# EAGLE library part HEADER-1X20 (library Etch_A_Sketch)
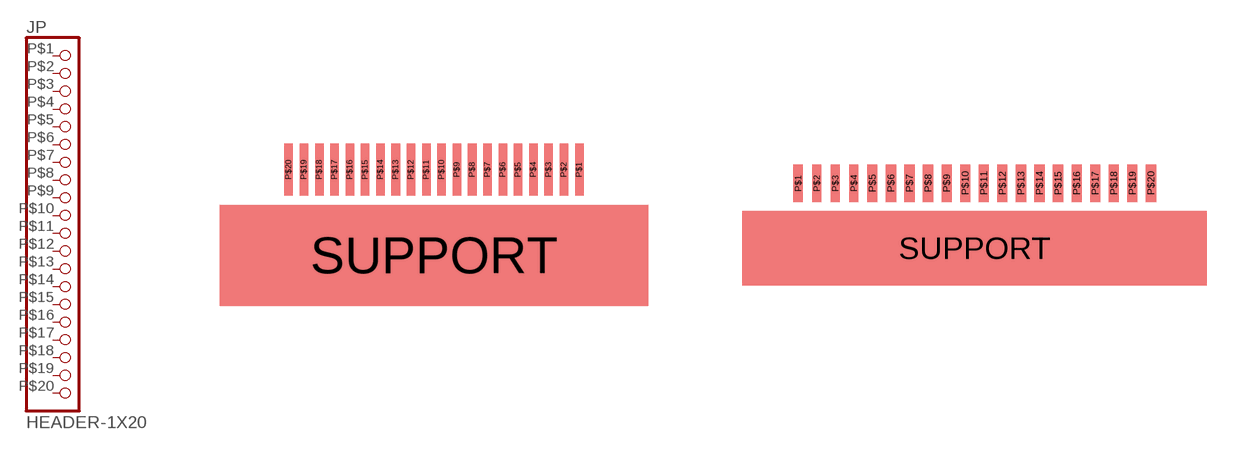
[diagram p2: symbol with the pads of FPC_GENERIC_0.5MM_20PIN; footprints FPC_GENERIC_0.5MM_20PIN, FPC_GENERIC_1.0MM_20PIN]

Designator prefix JP

## HEADER-1X20FPC_0.5MM  [FPC_GENERIC_0.5MM_20PIN]
P$1  1  pas
P$2  2  pas
P$3  3  pas
P$4  4  pas
P$5  5  pas
P$6  6  pas
P$7  7  pas
P$8  8  pas
P$9  9  pas
P$10  10  pas
P$11  11  pas
P$12  12  pas
P$13  13  pas
P$14  14  pas
P$15  15  pas
P$16  16  pas
P$17  17  pas
P$18  18  pas
P$19  19  pas
P$20  20  pas

## HEADER-1X20FPC_1.0MM  [FPC_GENERIC_1.0MM_20PIN]
Pads as for FPC_GENERIC_0.5MM_20PIN

## HEADER-1X20ROUND  [1X20_ROUND]
1  1  pas
2  2  pas
3  3  pas
4  4  pas
5  5  pas
6  6  pas
7  7  pas
8  8  pas
9  9  pas
10  10  pas
11  11  pas
12  12  pas
13  13  pas
14  14  pas
15  15  pas
16  16  pas
17  17  pas
18  18  pas
19  19  pas
20  20  pas

## Footprint FPC_GENERIC_0.5MM_20PIN (pad centres in mm)
smd 0.28 x 1.7: P$1 4.75,3.81; P$2 4.25,3.81; P$3 3.75,3.81; P$4 3.25,3.81; P$5 2.75,3.81; P$6 2.25,3.81; P$7 1.75,3.81; P$8 1.25,3.81; P$9 0.75,3.81; P$10 0.25,3.81; P$11 -0.25,3.81; P$12 -0.75,3.81; P$13 -1.25,3.81; P$14 -1.75,3.81; P$15 -2.25,3.81; P$16 -2.75,3.81; P$17 -3.25,3.81; P$18 -3.75,3.81; P$19 -4.25,3.81; P$20 -4.75,3.81
smd 14 x 3.3: SUPPORT 0,1.01

## Footprint FPC_GENERIC_1.0MM_20PIN (pad centres in mm)
Generic FPC Breakout - 20 Pin - 1.0mm Pitch
smd 0.5 x 2: P$1 -9.5,0; P$2 -8.5,0; P$3 -7.5,0; P$4 -6.5,0
smd 0.55 x 2: P$5 -5.5,0; P$6 -4.5,0; P$7 -3.5,0; P$8 -2.5,0; P$9 -1.5,0; P$10 -0.5,0; P$11 0.5,0; P$12 1.5,0; P$13 2.5,0; P$14 3.5,0; P$15 4.5,0; P$16 5.5,0; P$17 6.5,0; P$18 7.5,0; P$19 8.5,0; P$20 9.5,0
smd 25 x 4: SUPPORT 0,-3.5

## Footprint 1X20_ROUND (pad centres in mm)
drill 1 pad 1.676 square: 1 -24.13,0
drill 1 pad 1.676: 2 -21.59,0; 3 -19.05,0; 4 -16.51,0; 5 -13.97,0; 6 -11.43,0; 7 -8.89,0; 8 -6.35,0; 9 -3.81,0; 10 -1.27,0; 11 1.27,0; 12 3.81,0; 13 6.35,0; 14 8.89,0; 15 11.43,0; 16 13.97,0; 17 16.51,0; 18 19.05,0; 19 21.59,0; 20 24.13,0